# Altium footprint library Bluetooth Modules.PcbLib: 4 footprints
Each footprint in its own frame and in the unit in brackets; x right, y up, seen from the top. Pads: shape width x height; smd on the part's side, far side on the other; paste and mask are expansions set on the pad; w line width, h text height; cw(c..) or ccw(c..) is an arc to the next point about the centre after c.
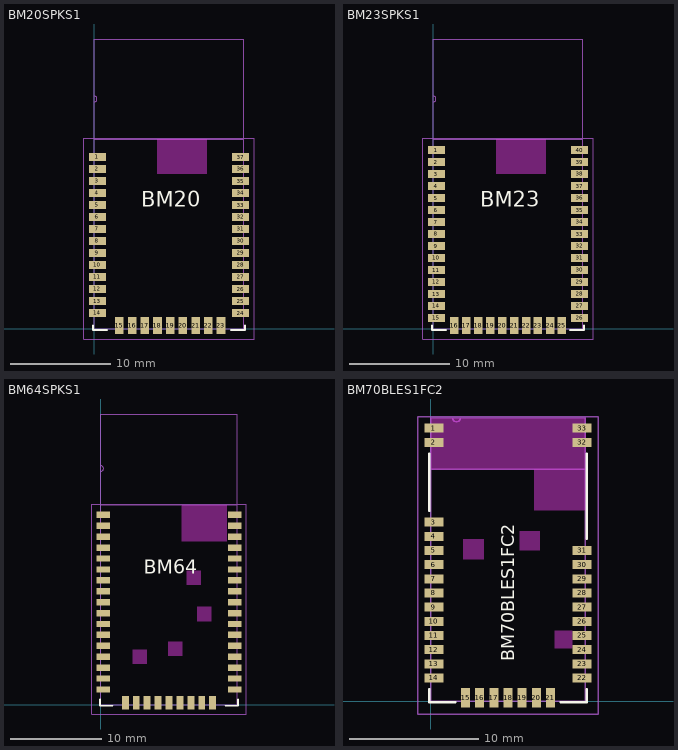
[diagram p0: the footprints below, top view; thin cyan lines are the x and y axes]

## BM20SPKS1 [mm] "BM20 Analog Stereo Bluetooth Module, QFN, 1.2mm pitch"
height 2.5
pads (37):
  rect 1.7x0.76 smd: 1(0.35,17.2) 2(0.35,16) 3(0.35,14.8) 4(0.35,13.6) 5(0.35,12.4) 6(0.35,11.2) 7(0.35,10) 8(0.35,8.8) 9(0.35,7.6) 10(0.35,6.4) 11(0.35,5.2) 12(0.35,4) 13(0.35,2.8) 14(0.35,1.6) 24(14.65,1.6) 25(14.65,2.8) 26(14.65,4) 27(14.65,5.2) 28(14.65,6.4) 29(14.65,7.6) 30(14.65,8.8) 31(14.65,10) 32(14.65,11.2) 33(14.65,12.4) 34(14.65,13.6) 35(14.65,14.8) 36(14.65,16) 37(14.65,17.2)
  rect 0.85x1.7 smd: 15(2.54,0.35) 16(3.81,0.35) 17(5.08,0.35) 18(6.35,0.35) 19(7.62,0.35) 20(8.89,0.35) 21(10.16,0.35) 22(11.43,0.35) 23(12.7,0.35)
Top Layer keep-out:
  rectangle: 6.3,15.5 11.3,19
Top Overlay:
  lines w0.2: -0.1,0.35 -0.1,-0.1 1.3,-0.1 ; 13.7,-0.1 15.1,-0.1 15.1,0.35
  text "BM20" at 4.7,12.2 h1.52
Mechanical 13:
  lines w0.1: 0,22.7 ccw(c0,23) 0,23.3 ; 0,19 0,0 15,0 15,19 ; 0,19 15,19 ; 0,19 0,29 15,29 15,19
Mechanical 15:
  lines w0.1: -1,-1 -1,19.1 16,19.1 16,-1 2,-1 -1,-1
3D body: height 2.5, standoff 0.6, extent 0.85,0.8 14.15,18.491
3D body: height 0.6, standoff 0, extent 0,0 15,29
3D body: height 0.65, standoff 0.6, extent 0.2,23 14.4,28.4
3D body: height 0.65, standoff 0.6, extent 13.5,19 14,23
3D body: height 0.65, standoff 0.6, extent 0.5,20.4 13.5,20.9
3D body: height 0.65, standoff 0.6, extent 0.5,19 1,20.4
3D body: height 2.5, standoff 0.6, extent 4.7,15.75 10.3,17.25
3D body: height 0.6, standoff 0, extent 0,23 14.4,28.4

## BM23SPKS1 [mm] "BM23 I2S Stereo Bluetooth Module, QFN, 1.2mm pitch"
height 2.5
pads (40):
  rect 1.7x0.76 smd: 1(0.35,17.9) 2(0.35,16.7) 3(0.35,15.5) 4(0.35,14.3) 5(0.35,13.1) 6(0.35,11.9) 7(0.35,10.7) 8(0.35,9.5) 9(0.35,8.3) 10(0.35,7.1) 11(0.35,5.9) 12(0.35,4.7) 13(0.35,3.5) 14(0.35,2.3) 15(0.35,1.1) 26(14.65,1.1) 27(14.65,2.3) 28(14.65,3.5) 29(14.65,4.7) 30(14.65,5.9) 31(14.65,7.1) 32(14.65,8.3) 33(14.65,9.5) 34(14.65,10.7) 35(14.65,11.9) 36(14.65,13.1) 37(14.65,14.3) 38(14.65,15.5) 39(14.65,16.7) 40(14.65,17.9)
  rect 0.85x1.7 smd: 16(2.1,0.35) 17(3.3,0.35) 18(4.5,0.35) 19(5.7,0.35) 20(6.9,0.35) 21(8.1,0.35) 22(9.3,0.35) 23(10.5,0.35) 24(11.7,0.35) 25(12.9,0.35)
Top Layer keep-out:
  rectangle: 6.3,15.5 11.3,19
Top Overlay:
  lines w0.2: -0.1,0.35 -0.1,-0.1 1.3,-0.1 ; 13.7,-0.1 15.1,-0.1 15.1,0.35
  text "BM23" at 4.7,12.2 h1.52
Mechanical 13:
  lines w0.1: 0,22.7 ccw(c0,23) 0,23.3 ; 0,19 0,0 15,0 15,19 ; 0,19 15,19 ; 0,19 0,29 15,29 15,19
Mechanical 15:
  lines w0.1: -1,-1 -1,19.1 16,19.1 16,-1 2,-1 -1,-1
3D body: height 2.5, standoff 0.6, extent 0.85,0.8 14.15,18.491
3D body: height 0.6, standoff 0, extent 0,0 15,29
3D body: height 0.65, standoff 0.6, extent 0.2,23 14.4,28.4
3D body: height 0.65, standoff 0.6, extent 13.5,19 14,23
3D body: height 0.65, standoff 0.6, extent 0.5,20.4 13.5,20.9
3D body: height 0.65, standoff 0.6, extent 0.5,19 1,20.4
3D body: height 2.5, standoff 0.6, extent 4.7,15.75 10.3,17.25
3D body: height 0.6, standoff 0, extent 0,23 14.4,28.4

## BM64SPKS1 [mm] "BM64 I2S Stereo Bluetooth Module, QFN, 1.2mm pitch"
height 2.5
pads (43):
  rect 1.5x0.7 smd: 1(0.25,20.9) 2(0.25,19.7) 3(0.25,18.5) 4(0.25,17.3) 5(0.25,16.1) 6(0.25,14.9) 7(0.25,13.7) 8(0.25,12.5) 9(0.25,11.3) 10(0.25,10.1) 11(0.25,8.9) 12(0.25,7.7) 13(0.25,6.5) 14(0.25,5.3) 15(0.25,4.1) 16(0.25,2.9) 17(0.25,1.7) 27(14.75,1.7) 28(14.75,2.9) 29(14.75,4.1) 30(14.75,5.3) 31(14.75,6.5) 32(14.75,7.7) 33(14.75,8.9) 34(14.75,10.1) 35(14.75,11.3) 36(14.75,12.5) 37(14.75,13.7) 38(14.75,14.9) 39(14.75,16.1) 40(14.75,17.3) 41(14.75,18.5) 42(14.75,19.7) 43(14.75,20.9)
  rect 0.76x1.5 smd: 18(2.7,0.25) 19(3.9,0.25) 20(5.1,0.25) 21(6.3,0.25) 22(7.5,0.25) 23(8.7,0.25) 24(9.9,0.25) 25(11.1,0.25) 26(12.3,0.25)
Top Layer keep-out:
  rectangle: 9.4,13.2 11,14.8
  rectangle: 10.6,9.2 12.2,10.8
  rectangle: 7.4,5.4 9,7
  rectangle: 8.9,18 13.9,22
  rectangle: 3.5,4.5 5.1,6.1
Top Overlay:
  lines w0.2: -0.1,0.6 -0.1,-0.1 1.3,-0.1 ; 13.7,-0.1 15.1,-0.1 15.1,0.6
  text "BM64" at 4.7,14.4 h1.52
Mechanical 13:
  lines w0.1: 0,25.7 ccw(c0,26) 0,26.3 ; 0,22 0,32 15,32 15,22 ; 0,22 15,22 ; 0,22 0,0 15,0 15,22
Mechanical 15:
  lines w0.1: -1,-1 2,-1 16,-1 16,22.1 -1,22.1 -1,-1
3D body: height 2.5, standoff 0.6, extent 4.7,18.4 10.3,20.35
3D body: height 0.65, standoff 0.6, extent 0.5,22.05 1,23.45
3D body: height 0.65, standoff 0.6, extent 0.5,23.45 13.5,23.95
3D body: height 0.65, standoff 0.6, extent 13.5,22.05 14,26.05
3D body: height 0.65, standoff 0.6, extent 0.2,26.05 14.4,31.45
3D body: height 0.6, standoff 0, extent 0,0 15,32
3D body: height 2.5, standoff 0.6, extent 0.8,0.8 14.2,21.7
3D body: height 0.6, standoff 0, extent 0,23 14.4,28.4

## BM70BLES1FC2 [mm] "Low Energy Bluetooth Module, QFN, 1.1mm pitch"
height 2.4
pads (33):
  rect 1.5x0.7 smd: 1(0.25,21.2) 2(0.25,20.1) 3(0.25,13.9) 4(0.25,12.8) 5(0.25,11.7) 6(0.25,10.6) 7(0.25,9.5) 8(0.25,8.4) 9(0.25,7.3) 10(0.25,6.2) 11(0.25,5.1) 12(0.25,4) 13(0.25,2.9) 14(0.25,1.8) 22(11.75,1.8) 23(11.75,2.9) 24(11.75,4) 25(11.75,5.1) 26(11.75,6.2) 27(11.75,7.3) 28(11.75,8.4) 29(11.75,9.5) 30(11.75,10.6) 31(11.75,11.7) 32(11.75,20.1) 33(11.75,21.2)
  rect 0.7x1.5 smd: 15(2.7,0.25) 16(3.8,0.25) 17(4.9,0.25) 18(6,0.25) 19(7.1,0.25) 20(8.2,0.25) 21(9.3,0.25)
Top Layer keep-out:
  rectangle: 2.5,11 4.15,12.6
  rectangle: 9.6,4.1 11,5.5
  rectangle: 6.9,11.7 8.5,13.2
  rectangle: 8,14.8 12,18
Top Overlay:
  lines w0.2: -0.1,0.9 -0.1,-0.1 1.9,-0.1 ; -0.1,14.8 -0.1,19.2 ; 10.1,-0.1 12.1,-0.1 12.1,0.9 ; 12.1,12.6 12.1,19.2
  text "BM70BLES1FC2" at 6.5,3.1 h1
Keep-Out Layer:
  rectangle: 9.2,15.9 11.2,18
  rectangle: 0,18 12,22
Mechanical 13:
  lines w0.1: 0,18 12,18 ; 1.7,22 ccw(c2,22) 2.3,22 ; 0,0 0,22 12,22 12,0 0,0
Mechanical 15:
  lines w0.1: -1,-1 -1,22.1 13,22.1 13,-1 2,-1 -1,-1
3D body: height 2.4, standoff 0.6, extent 2,14.7 10,16.2
3D body: height 1.2, standoff 0.6, extent 4.9,19.9 8.2,21.5
3D body: height 2.4, standoff 0.6, extent 0.8,0.7 11.2,17.3
3D body: height 0.6, standoff 0, extent 0,0 12,22